# EAGLE library part OMNETICS_A79025 (library RHS2000)
Omnetics A79025 36-pin connector
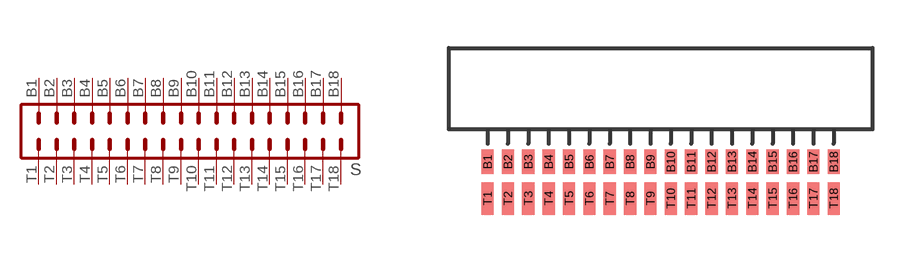
[diagram p0: symbol with the pads of OMNETICS_A79025; footprint OMNETICS_A79025]

Designator prefix S

## OMNETICS_A79025  [OMNETICS_A79025]
B1  B1  pas
B2  B2  pas
B3  B3  pas
B4  B4  pas
B5  B5  pas
B6  B6  pas
B7  B7  pas
B8  B8  pas
B9  B9  pas
B10  B10  pas
B11  B11  pas
B12  B12  pas
B13  B13  pas
B14  B14  pas
B15  B15  pas
B16  B16  pas
B17  B17  pas
B18  B18  pas
T1  T1  pas
T2  T2  pas
T3  T3  pas
T4  T4  pas
T5  T5  pas
T6  T6  pas
T7  T7  pas
T8  T8  pas
T9  T9  pas
T10  T10  pas
T11  T11  pas
T12  T12  pas
T13  T13  pas
T14  T14  pas
T15  T15  pas
T16  T16  pas
T17  T17  pas
T18  T18  pas

## Footprint OMNETICS_A79025 (pad centres in mm)
smd 0.381 x 0.762: B1 -5.397,-1.016; B2 -4.763,-1.016; B3 -4.128,-1.016; B4 -3.493,-1.016; B5 -2.857,-1.016; B6 -2.223,-1.016; B7 -1.587,-1.016; B8 -0.953,-1.016; B9 -0.318,-1.016; B10 0.318,-1.016; B11 0.953,-1.016; B12 1.587,-1.016; B13 2.223,-1.016; B14 2.857,-1.016; B15 3.493,-1.016; B16 4.128,-1.016; B17 4.763,-1.016; B18 5.397,-1.016
smd 0.381 x 1.016: T1 -5.397,-2.159; T2 -4.763,-2.159; T3 -4.128,-2.159; T4 -3.493,-2.159; T5 -2.857,-2.159; T6 -2.223,-2.159; T7 -1.587,-2.159; T8 -0.953,-2.159; T9 -0.318,-2.159; T10 0.318,-2.159; T11 0.953,-2.159; T12 1.587,-2.159; T13 2.223,-2.159; T14 2.857,-2.159; T15 3.493,-2.159; T16 4.128,-2.159; T17 4.763,-2.159; T18 5.397,-2.159